# Altium schematic symbol library TPSM64406RCHR.SchLib: 1 symbol
Pins are listed as number, name and electrical type; pins without a type are passive.

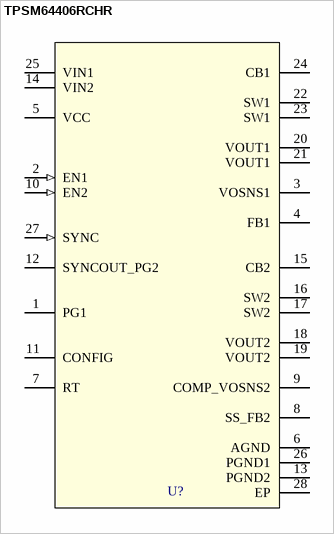
[diagram p0: symbol TPSM64406RCHR]

## TPSM64406RCHR
designator U?, comment OK  (value not drawn)
Switching Voltage Regulator 36V, 0.8V-to-16V output, dual 3A output
pins: 1 PG1, 2 EN1 (in), 3 VOSNS1, 4 FB1, 5 VCC (power), 6 AGND (power), 7 RT, 8 SS_FB2, 9 COMP_VOSNS2, 10 EN2 (in), 11 CONFIG, 12 SYNCOUT_PG2, 13 PGND2 (power), 14 VIN2 (power), 15 CB2 (power), 16 SW2 (power), 17 SW2 (power), 18 VOUT2 (power), 19 VOUT2 (power), 20 VOUT1 (power), 21 VOUT1 (power), 22 SW1 (power), 23 SW1 (power), 24 CB1 (power), 25 VIN1 (power), 26 PGND1 (power), 27 SYNC (in), 28 EP (power)